# Altium schematic symbol library logic_buffers.SchLib: 3 symbols
Pins are listed as number, name and electrical type; pins without a type are passive.

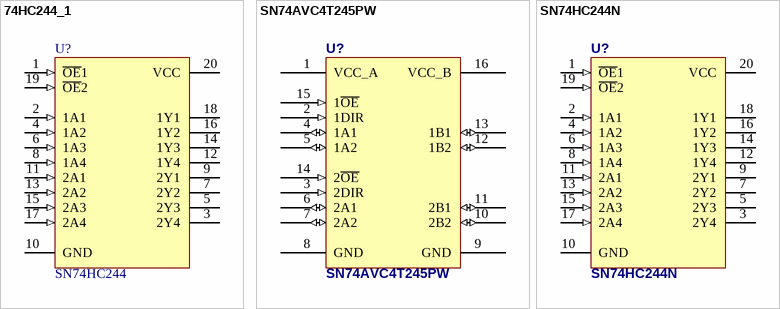
[diagram p0: symbols 74HC244_1 to SN74HC244N]

## 74HC244_1
designator U?, comment SN74HC244
Octal Buffer and Line Driver with 3-State Outputs
footprint SO20 (Small Outline; 20 Leads; Body Width 3.9 mm; Pitch 1.27 mm)
footprint SSOP20
footprint DIP20
pins: 1 ~{OE}1 (in), 2 1A1 (in), 3 2Y4 (hiz), 4 1A2 (in), 5 2Y3 (hiz), 6 1A3 (in), 7 2Y2 (hiz), 8 1A4 (in), 9 2Y1 (hiz), 10 GND (power), 11 2A1 (in), 12 1Y4 (hiz), 13 2A2 (in), 14 1Y3 (hiz), 15 2A3 (in), 16 1Y2 (hiz), 17 2A4 (in), 18 1Y1 (hiz), 19 ~{OE}2 (in), 20 VCC (power)
1 alternate drawing of the same symbol

## SN74AVC4T245PW
designator U?
4-bit Dual-supply Bus Transceiver With Configurable Voltage Translation and 3-State Outputs
footprint SSOP16 (SSOP; 16 Leads; Body Width 5.3 mm; Pitch 0.65 mm)
pins: 1 VCC_A, 2 1DIR (in), 3 2DIR (in), 4 1A1 (io), 5 1A2 (io), 6 2A1 (io), 7 2A2 (io), 8 GND, 9 GND, 10 2B2 (io), 11 2B1 (io), 12 1B2 (io), 13 1B1 (io), 14 2~{OE} (in), 15 1~{OE} (in), 16 VCC_B

## SN74HC244N
designator U?
Octal Buffer and Line Driver with 3-State Outputs; Supplier 1: Farnell; Supplier 2: TME; Supplier 3: Farnell; Supplier Part Number 1: 9591281; Supplier Part Number 2: SN74HC244N; Supplier Part Number 3: 9665897
footprint DIP20
pins: 1 ~{OE}1 (in), 2 1A1 (in), 3 2Y4 (hiz), 4 1A2 (in), 5 2Y3 (hiz), 6 1A3 (in), 7 2Y2 (hiz), 8 1A4 (in), 9 2Y1 (hiz), 10 GND (power), 11 2A1 (in), 12 1Y4 (hiz), 13 2A2 (in), 14 1Y3 (hiz), 15 2A3 (in), 16 1Y2 (hiz), 17 2A4 (in), 18 1Y1 (hiz), 19 ~{OE}2 (in), 20 VCC (power)
1 alternate drawing of the same symbol